# EAGLE library part MMA7455 (library mtoriginal)
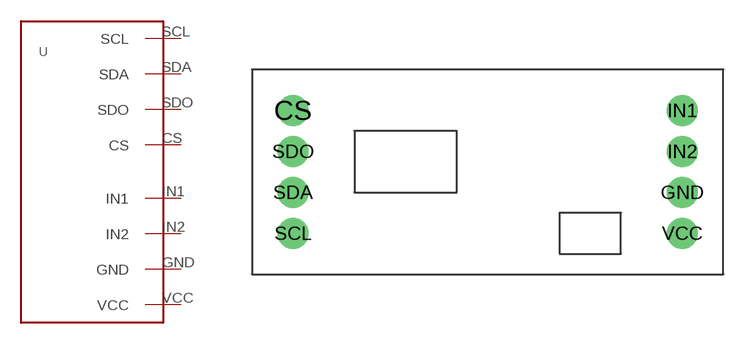
[diagram p2: symbol with the pads of MMA7455; footprint MMA7455]

Designator prefix -

## MMA7455  [MMA7455]
CS  CS
GND  GND
IN1  IN1
IN2  IN2
SCL  SCL
SDA  SDA
SDO  SDO
VCC  VCC

## Footprint MMA7455 (pad centres in mm)
drill 1 pad 1.93: CS 1.27,10.16; GND 25.4,5.08; IN1 25.4,10.16; IN2 25.4,7.62; SCL 1.27,2.54; SDA 1.27,5.08; SDO 1.27,7.62; VCC 25.4,2.54